# EAGLE library part 16PIN (library MyCMOSsensor)
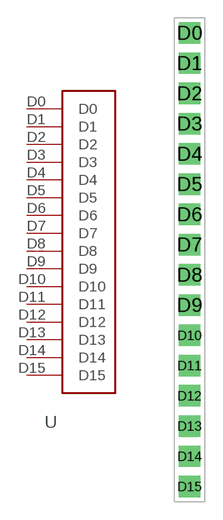
[diagram p5: symbol with the pads of 16PIN; footprint 16PIN]

Designator prefix -

## 16PIN  [16PIN]
D0  D0
D1  D1
D2  D2
D3  D3
D4  D4
D5  D5
D6  D6
D7  D7
D8  D8
D9  D9
D10  D10
D11  D11
D12  D12
D13  D13
D14  D14
D15  D15

## Footprint 16PIN (pad centres in mm)
drill 1.2 square: D0 0,20.32; D1 0,17.78; D2 0,15.24; D3 0,12.7; D4 0,10.16; D5 0,7.62; D6 0,5.08; D7 0,2.54; D8 0,0; D9 0,-2.54; D10 0,-5.08; D11 0,-7.62; D12 0,-10.16; D13 0,-12.7; D14 0,-15.24; D15 0,-17.78